# Altium integrated library Xilinx Spartan.IntLib: 39 symbols (part 4 of 4)
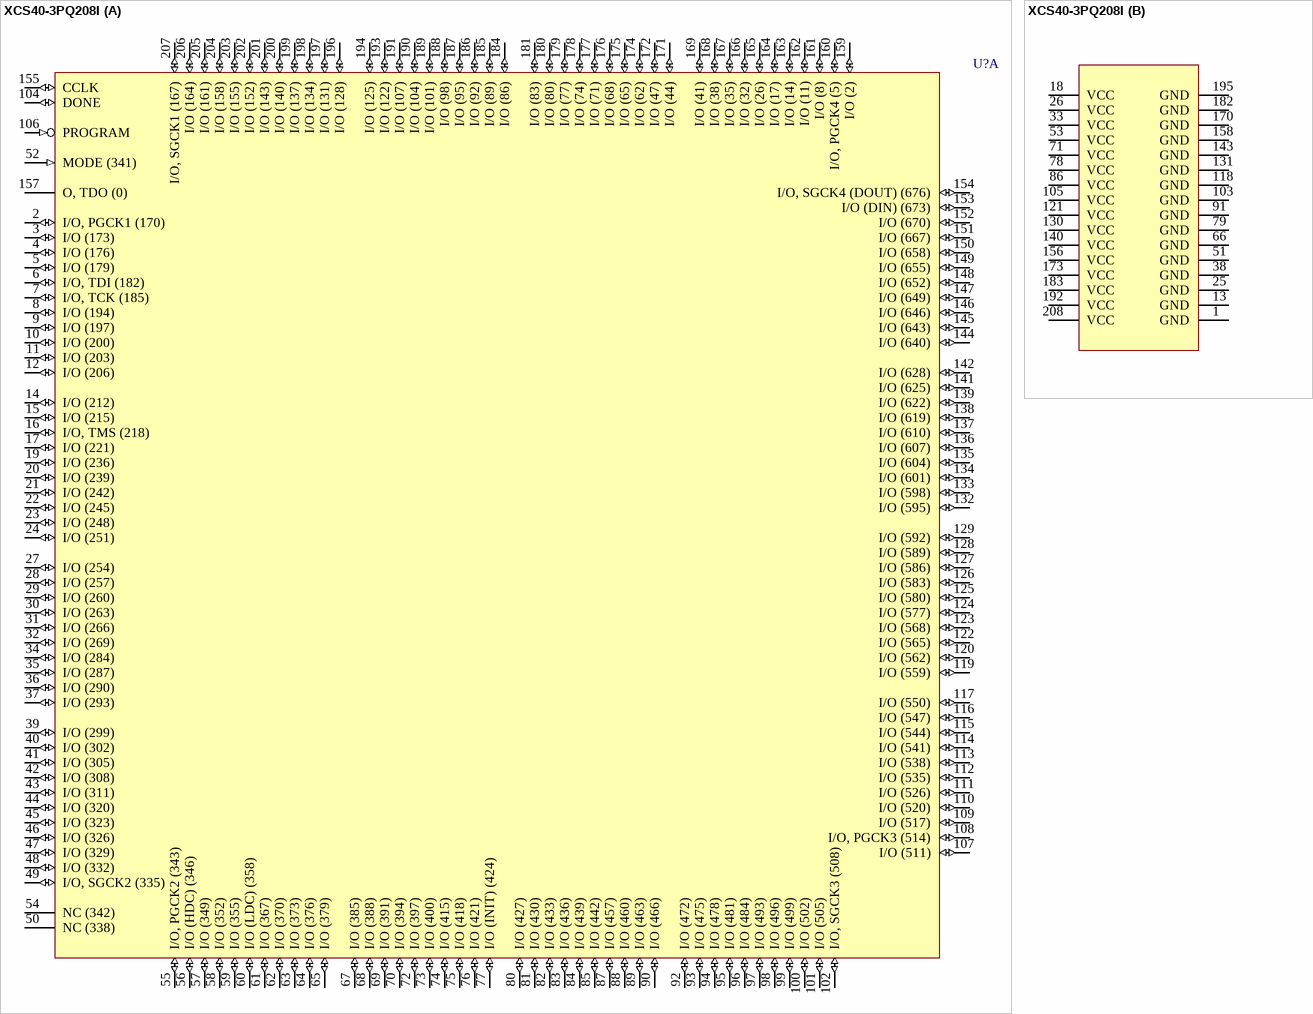
[diagram p29: symbol XCS40-3PQ208I]

## XCS40-3PQ208I
designator U?
Spartan FPGA, 169 User I/Os, 208-Pin PQFP, Speed Grade 3, Industrial Grade; Published: 13-Jul-2001; LatestRevisionDate: 16-Nov-2009; LatestRevisionNote: Updated to datasheet version 1.8 Jun-2008; DatasheetVersion: ver1.8, Jun-2008; PackageVersion: ver1.2, Jun-2004; PackageReference: PQ208; Publisher: Altium Limited; PackageDescription: 208-Pin Plastic Quad Flat Pack (PQ208); Supplier 1: Digi-Key; Supplier Part Number 1: XCS40-3PQ208I-ND; Code_JEDEC: MS-029-FA-1; ComponentLink1Description: Spartan(XL) Datasheet; ComponentLink1URL: http://www.xilinx.com/support/documentation/data_sheets/ds060.pdf; ComponentLink2Description: PQ208 Package Drawing; ComponentLink2URL: http://www.xilinx.com/support/documentation/package_specs/pq208.pdf; ComponentLink3Description: Spartan(XL) Documents; ComponentLink3URL: http://www.xilinx.com/support/documentation/spartan-xl.htm; ComponentLink4Description: Xilinx.com Home; ComponentLink4URL: http://www.xilinx.com
footprint PQ208_N (Shrink QFP, 208-Leads, Body 28x28mm, Pitch 0.5mm, IPC Medium Density)
footprint PQ208_L (Shrink QFP, 208-Leads, Body 28x28mm, Pitch 0.5mm, IPC High Density)
footprint PQ208_M (Shrink QFP, 208-Leads, Body 28x28mm, Pitch 0.5mm, IPC Low Density)
part A pins: 2 I/O, PGCK1 (170) (io), 3 I/O (173) (io), 4 I/O (176) (io), 5 I/O (179) (io), 6 I/O, TDI (182) (io), 7 I/O, TCK (185) (io), 8 I/O (194) (io), 9 I/O (197) (io), 10 I/O (200) (io), 11 I/O (203) (io), 12 I/O (206) (io), 14 I/O (212) (io), 15 I/O (215) (io), 16 I/O, TMS (218) (io), 17 I/O (221) (io), 19 I/O (236) (io), 20 I/O (239) (io), 21 I/O (242) (io), 22 I/O (245) (io), 23 I/O (248) (io), 24 I/O (251) (io), 27 I/O (254) (io), 28 I/O (257) (io), 29 I/O (260) (io), 30 I/O (263) (io), 31 I/O (266) (io), 32 I/O (269) (io), 34 I/O (284) (io), 35 I/O (287) (io), 36 I/O (290) (io), 37 I/O (293) (io), 39 I/O (299) (io), 40 I/O (302) (io), 41 I/O (305) (io), 42 I/O (308) (io), 43 I/O (311) (io), 44 I/O (320) (io), 45 I/O (323) (io), 46 I/O (326) (io), 47 I/O (329) (io), 48 I/O (332) (io), 49 I/O, SGCK2 (335) (io), 50 NC (338), 52 MODE (341) (in), 54 NC (342), 55 I/O, PGCK2 (343) (io), 56 I/O (HDC) (346) (io), 57 I/O (349) (io), 58 I/O (352) (io), 59 I/O (355) (io), 60 I/O (LDC) (358) (io), 61 I/O (367) (io), 62 I/O (370) (io), 63 I/O (373) (io), 64 I/O (376) (io), 65 I/O (379) (io), 67 I/O (385) (io), 68 I/O (388) (io), 69 I/O (391) (io), 70 I/O (394) (io), 72 I/O (397) (io), 73 I/O (400) (io), 74 I/O (415) (io), 75 I/O (418) (io), 76 I/O (421) (io), 77 I/O (INIT) (424) (io), 80 I/O (427) (io), 81 I/O (430) (io), 82 I/O (433) (io), 83 I/O (436) (io), 84 I/O (439) (io), 85 I/O (442) (io), 87 I/O (457) (io), 88 I/O (460) (io), 89 I/O (463) (io), 90 I/O (466) (io), 92 I/O (472) (io), 93 I/O (475) (io), 94 I/O (478) (io), 95 I/O (481) (io), 96 I/O (484) (io), 97 I/O (493) (io), 98 I/O (496) (io), 99 I/O (499) (io), 100 I/O (502) (io), 101 I/O (505) (io), 102 I/O, SGCK3 (508) (io), 104 DONE (io), 106 PROGRAM (in), 107 I/O (511) (io), 108 I/O, PGCK3 (514) (io), 109 I/O (517) (io), 110 I/O (520) (io), 111 I/O (526) (io), 112 I/O (535) (io), 113 I/O (538) (io), 114 I/O (541) (io), 115 I/O (544) (io), 116 I/O (547) (io), 117 I/O (550) (io), 119 I/O (559) (io), 120 I/O (562) (io), 122 I/O (565) (io), 123 I/O (568) (io), 124 I/O (577) (io), 125 I/O (580) (io), 126 I/O (583) (io), 127 I/O (586) (io), 128 I/O (589) (io), 129 I/O (592) (io), 132 I/O (595) (io), 133 I/O (598) (io), 134 I/O (601) (io), 135 I/O (604) (io), 136 I/O (607) (io), 137 I/O (610) (io), 138 I/O (619) (io), 139 I/O (622) (io), 141 I/O (625) (io), 142 I/O (628) (io), 144 I/O (640) (io), 145 I/O (643) (io), 146 I/O (646) (io), 147 I/O (649) (io), 148 I/O (652) (io), 149 I/O (655) (io), 150 I/O (658) (io), 151 I/O (667) (io), 152 I/O (670) (io), 153 I/O (DIN) (673) (io), 154 I/O, SGCK4 (DOUT) (676) (io), 155 CCLK (io), 157 O, TDO (0) (hiz), 159 I/O (2) (io), 160 I/O, PGCK4 (5) (io), 161 I/O (8) (io), 162 I/O (11) (io), 163 I/O (14) (io), 164 I/O (17) (io), 165 I/O (26) (io), 166 I/O (32) (io), 167 I/O (35) (io), 168 I/O (38) (io), 169 I/O (41) (io), 171 I/O (44) (io), 172 I/O (47) (io), 174 I/O (62) (io), 175 I/O (65) (io), 176 I/O (68) (io), 177 I/O (71) (io), 178 I/O (74) (io), 179 I/O (77) (io), 180 I/O (80) (io), 181 I/O (83) (io), 184 I/O (86) (io), 185 I/O (89) (io), 186 I/O (92) (io), 187 I/O (95) (io), 188 I/O (98) (io), 189 I/O (101) (io), 190 I/O (104) (io), 191 I/O (107) (io), 193 I/O (122) (io), 194 I/O (125) (io), 196 I/O (128) (io), 197 I/O (131) (io), 198 I/O (134) (io), 199 I/O (137) (io), 200 I/O (140) (io), 201 I/O (143) (io), 202 I/O (152) (io), 203 I/O (155) (io), 204 I/O (158) (io), 205 I/O (161) (io), 206 I/O (164) (io), 207 I/O, SGCK1 (167) (io)
part B pins: 1 GND (power), 13 GND (power), 18 VCC (power), 25 GND (power), 26 VCC (power), 33 VCC (power), 38 GND (power), 51 GND (power), 53 VCC (power), 66 GND (power), 71 VCC (power), 78 VCC (power), 79 GND (power), 86 VCC (power), 91 GND (power), 103 GND (power), 105 VCC (power), 118 GND (power), 121 VCC (power), 130 VCC (power), 131 GND (power), 140 VCC (power), 143 GND (power), 156 VCC (power), 158 GND (power), 170 GND (power), 173 VCC (power), 182 GND (power), 183 VCC (power), 192 VCC (power), 195 GND (power), 208 VCC (power)

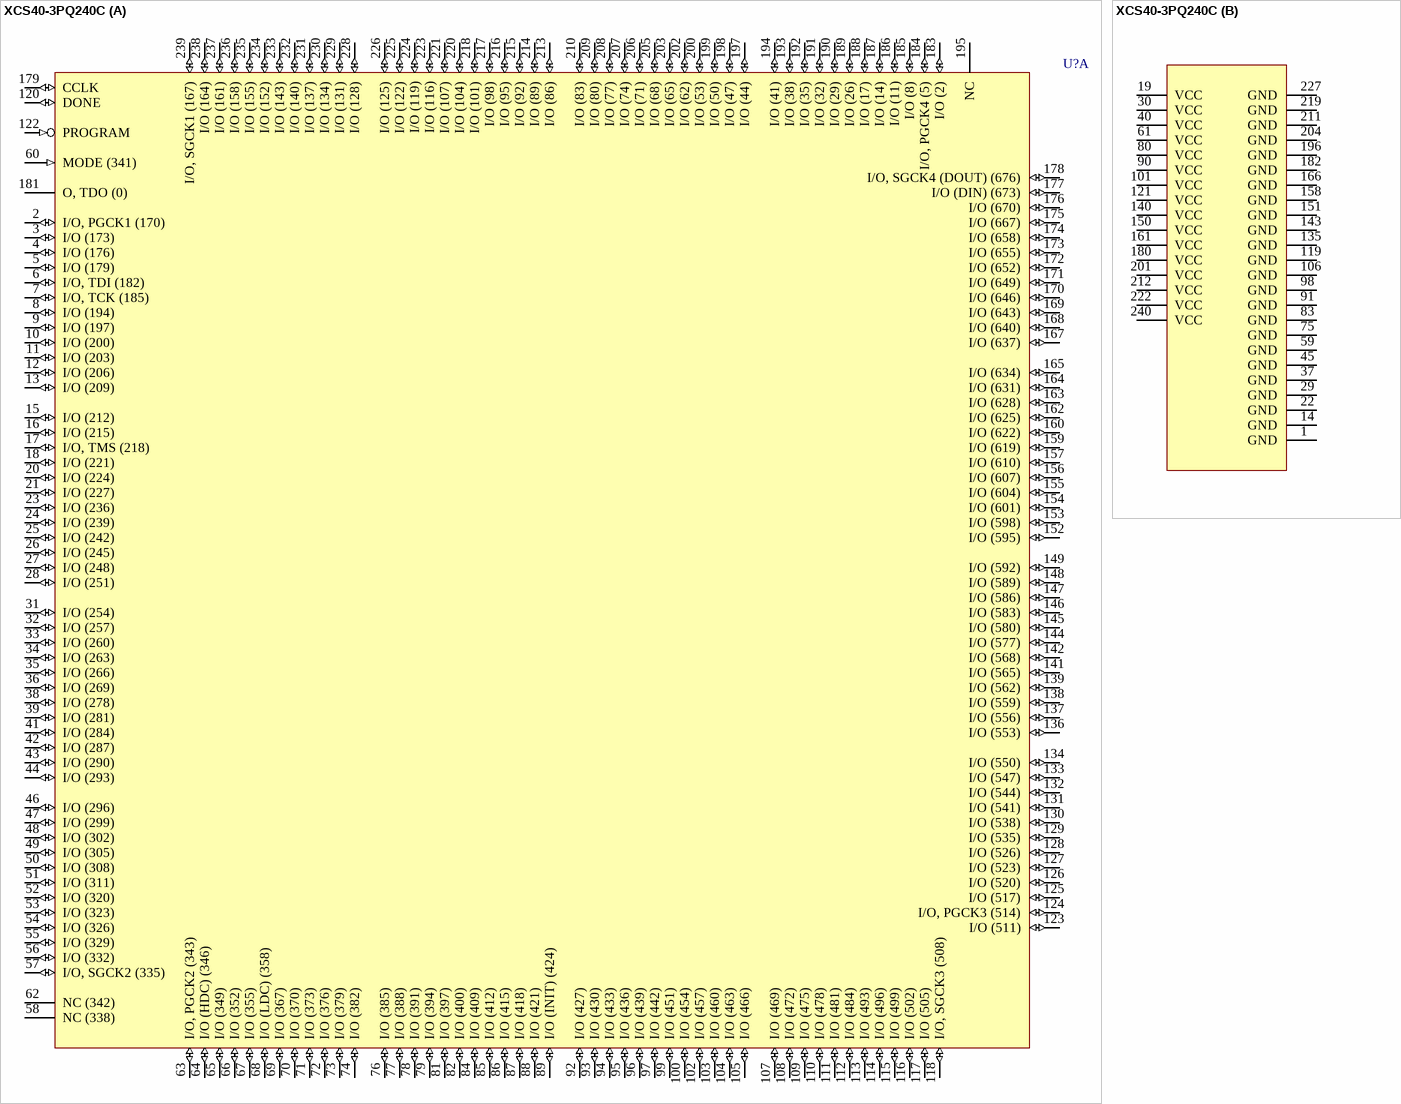
[diagram p23: symbol XCS40-3PQ240C]

## XCS40-3PQ240C
designator U?
Spartan FPGA, 192 User I/Os, 240-Pin PQFP, Speed Grade 3, Commercial Grade; Published: 13-Jul-2001; LatestRevisionDate: 16-Nov-2009; LatestRevisionNote: Updated to datasheet version 1.8 Jun-2008; DatasheetVersion: ver1.8, Jun-2008; PackageVersion: ver1.2, Jun-2004; PackageReference: PQ240; Publisher: Altium Limited; PackageDescription: 240-Pin Plastic Quad Flat Pack (PQ240); Supplier 1: Digi-Key; Supplier Part Number 1: XCS40-3PQ240C-ND; Code_JEDEC: MO-143-GA; ComponentLink1Description: Spartan(XL) Datasheet; ComponentLink1URL: http://www.xilinx.com/support/documentation/data_sheets/ds060.pdf; ComponentLink2Description: PQ240 Package Drawing; ComponentLink2URL: http://www.xilinx.com/support/documentation/package_specs/pq240.pdf; ComponentLink3Description: Spartan(XL) Documents; ComponentLink3URL: http://www.xilinx.com/support/documentation/spartan-xl.htm; ComponentLink4Description: Xilinx.com Home; ComponentLink4URL: http://www.xilinx.com
footprint PQ240_N (Shrink QFP, 240-Leads, Body 32x32mm, Pitch 0.5mm, IPC Medium Density)
footprint PQ240_L (Shrink QFP, 240-Leads, Body 32x32mm, Pitch 0.5mm, IPC High Density)
footprint PQ240_M (Shrink QFP, 240-Leads, Body 32x32mm, Pitch 0.5mm, IPC Low Density)
part A pins: 2 I/O, PGCK1 (170) (io), 3 I/O (173) (io), 4 I/O (176) (io), 5 I/O (179) (io), 6 I/O, TDI (182) (io), 7 I/O, TCK (185) (io), 8 I/O (194) (io), 9 I/O (197) (io), 10 I/O (200) (io), 11 I/O (203) (io), 12 I/O (206) (io), 13 I/O (209) (io), 15 I/O (212) (io), 16 I/O (215) (io), 17 I/O, TMS (218) (io), 18 I/O (221) (io), 20 I/O (224) (io), 21 I/O (227) (io), 23 I/O (236) (io), 24 I/O (239) (io), 25 I/O (242) (io), 26 I/O (245) (io), 27 I/O (248) (io), 28 I/O (251) (io), 31 I/O (254) (io), 32 I/O (257) (io), 33 I/O (260) (io), 34 I/O (263) (io), 35 I/O (266) (io), 36 I/O (269) (io), 38 I/O (278) (io), 39 I/O (281) (io), 41 I/O (284) (io), 42 I/O (287) (io), 43 I/O (290) (io), 44 I/O (293) (io), 46 I/O (296) (io), 47 I/O (299) (io), 48 I/O (302) (io), 49 I/O (305) (io), 50 I/O (308) (io), 51 I/O (311) (io), 52 I/O (320) (io), 53 I/O (323) (io), 54 I/O (326) (io), 55 I/O (329) (io), 56 I/O (332) (io), 57 I/O, SGCK2 (335) (io), 58 NC (338), 60 MODE (341) (in), 62 NC (342), 63 I/O, PGCK2 (343) (io), 64 I/O (HDC) (346) (io), 65 I/O (349) (io), 66 I/O (352) (io), 67 I/O (355) (io), 68 I/O (LDC) (358) (io), 69 I/O (367) (io), 70 I/O (370) (io), 71 I/O (373) (io), 72 I/O (376) (io), 73 I/O (379) (io), 74 I/O (382) (io), 76 I/O (385) (io), 77 I/O (388) (io), 78 I/O (391) (io), 79 I/O (394) (io), 81 I/O (397) (io), 82 I/O (400) (io), 84 I/O (409) (io), 85 I/O (412) (io), 86 I/O (415) (io), 87 I/O (418) (io), 88 I/O (421) (io), 89 I/O (INIT) (424) (io), 92 I/O (427) (io), 93 I/O (430) (io), 94 I/O (433) (io), 95 I/O (436) (io), 96 I/O (439) (io), 97 I/O (442) (io), 99 I/O (451) (io), 100 I/O (454) (io), 102 I/O (457) (io), 103 I/O (460) (io), 104 I/O (463) (io), 105 I/O (466) (io), 107 I/O (469) (io), 108 I/O (472) (io), 109 I/O (475) (io), 110 I/O (478) (io), 111 I/O (481) (io), 112 I/O (484) (io), 113 I/O (493) (io), 114 I/O (496) (io), 115 I/O (499) (io), 116 I/O (502) (io), 117 I/O (505) (io), 118 I/O, SGCK3 (508) (io), 120 DONE (io), 122 PROGRAM (in), 123 I/O (511) (io), 124 I/O, PGCK3 (514) (io), 125 I/O (517) (io), 126 I/O (520) (io), 127 I/O (523) (io), 128 I/O (526) (io), 129 I/O (535) (io), 130 I/O (538) (io), 131 I/O (541) (io), 132 I/O (544) (io), 133 I/O (547) (io), 134 I/O (550) (io), 136 I/O (553) (io), 137 I/O (556) (io), 138 I/O (559) (io), 139 I/O (562) (io), 141 I/O (565) (io), 142 I/O (568) (io), 144 I/O (577) (io), 145 I/O (580) (io), 146 I/O (583) (io), 147 I/O (586) (io), 148 I/O (589) (io), 149 I/O (592) (io), 152 I/O (595) (io), 153 I/O (598) (io), 154 I/O (601) (io), 155 I/O (604) (io), 156 I/O (607) (io), 157 I/O (610) (io), 159 I/O (619) (io), 160 I/O (622) (io), 162 I/O (625) (io), 163 I/O (628) (io), 164 I/O (631) (io), 165 I/O (634) (io), 167 I/O (637) (io), 168 I/O (640) (io), 169 I/O (643) (io), 170 I/O (646) (io), 171 I/O (649) (io), 172 I/O (652) (io), 173 I/O (655) (io), 174 I/O (658) (io), 175 I/O (667) (io), 176 I/O (670) (io), 177 I/O (DIN) (673) (io), 178 I/O, SGCK4 (DOUT) (676) (io), 179 CCLK (io), 181 O, TDO (0) (hiz), 183 I/O (2) (io), 184 I/O, PGCK4 (5) (io), 185 I/O (8) (io), 186 I/O (11) (io), 187 I/O (14) (io), 188 I/O (17) (io), 189 I/O (26) (io), 190 I/O (29) (io), 191 I/O (32) (io), 192 I/O (35) (io), 193 I/O (38) (io), 194 I/O (41) (io), 195 NC, 197 I/O (44) (io), 198 I/O (47) (io), 199 I/O (50) (io), 200 I/O (53) (io), 202 I/O (62) (io), 203 I/O (65) (io), 205 I/O (68) (io), 206 I/O (71) (io), 207 I/O (74) (io), 208 I/O (77) (io), 209 I/O (80) (io), 210 I/O (83) (io), 213 I/O (86) (io), 214 I/O (89) (io), 215 I/O (92) (io), 216 I/O (95) (io), 217 I/O (98) (io), 218 I/O (101) (io), 220 I/O (104) (io), 221 I/O (107) (io), 223 I/O (116) (io), 224 I/O (119) (io), 225 I/O (122) (io), 226 I/O (125) (io), 228 I/O (128) (io), 229 I/O (131) (io), 230 I/O (134) (io), 231 I/O (137) (io), 232 I/O (140) (io), 233 I/O (143) (io), 234 I/O (152) (io), 235 I/O (155) (io), 236 I/O (158) (io), 237 I/O (161) (io), 238 I/O (164) (io), 239 I/O, SGCK1 (167) (io)
part B pins: 1 GND (power), 14 GND (power), 19 VCC (power), 22 GND (power), 29 GND (power), 30 VCC (power), 37 GND (power), 40 VCC (power), 45 GND (power), 59 GND (power), 61 VCC (power), 75 GND (power), 80 VCC (power), 83 GND (power), 90 VCC (power), 91 GND (power), 98 GND (power), 101 VCC (power), 106 GND (power), 119 GND (power), 121 VCC (power), 135 GND (power), 140 VCC (power), 143 GND (power), 150 VCC (power), 151 GND (power), 158 GND (power), 161 VCC (power), 166 GND (power), 180 VCC (power), 182 GND (power), 196 GND (power), 201 VCC (power), 204 GND (power), 211 GND (power), 212 VCC (power), 219 GND (power), 222 VCC (power), 227 GND (power), 240 VCC (power)

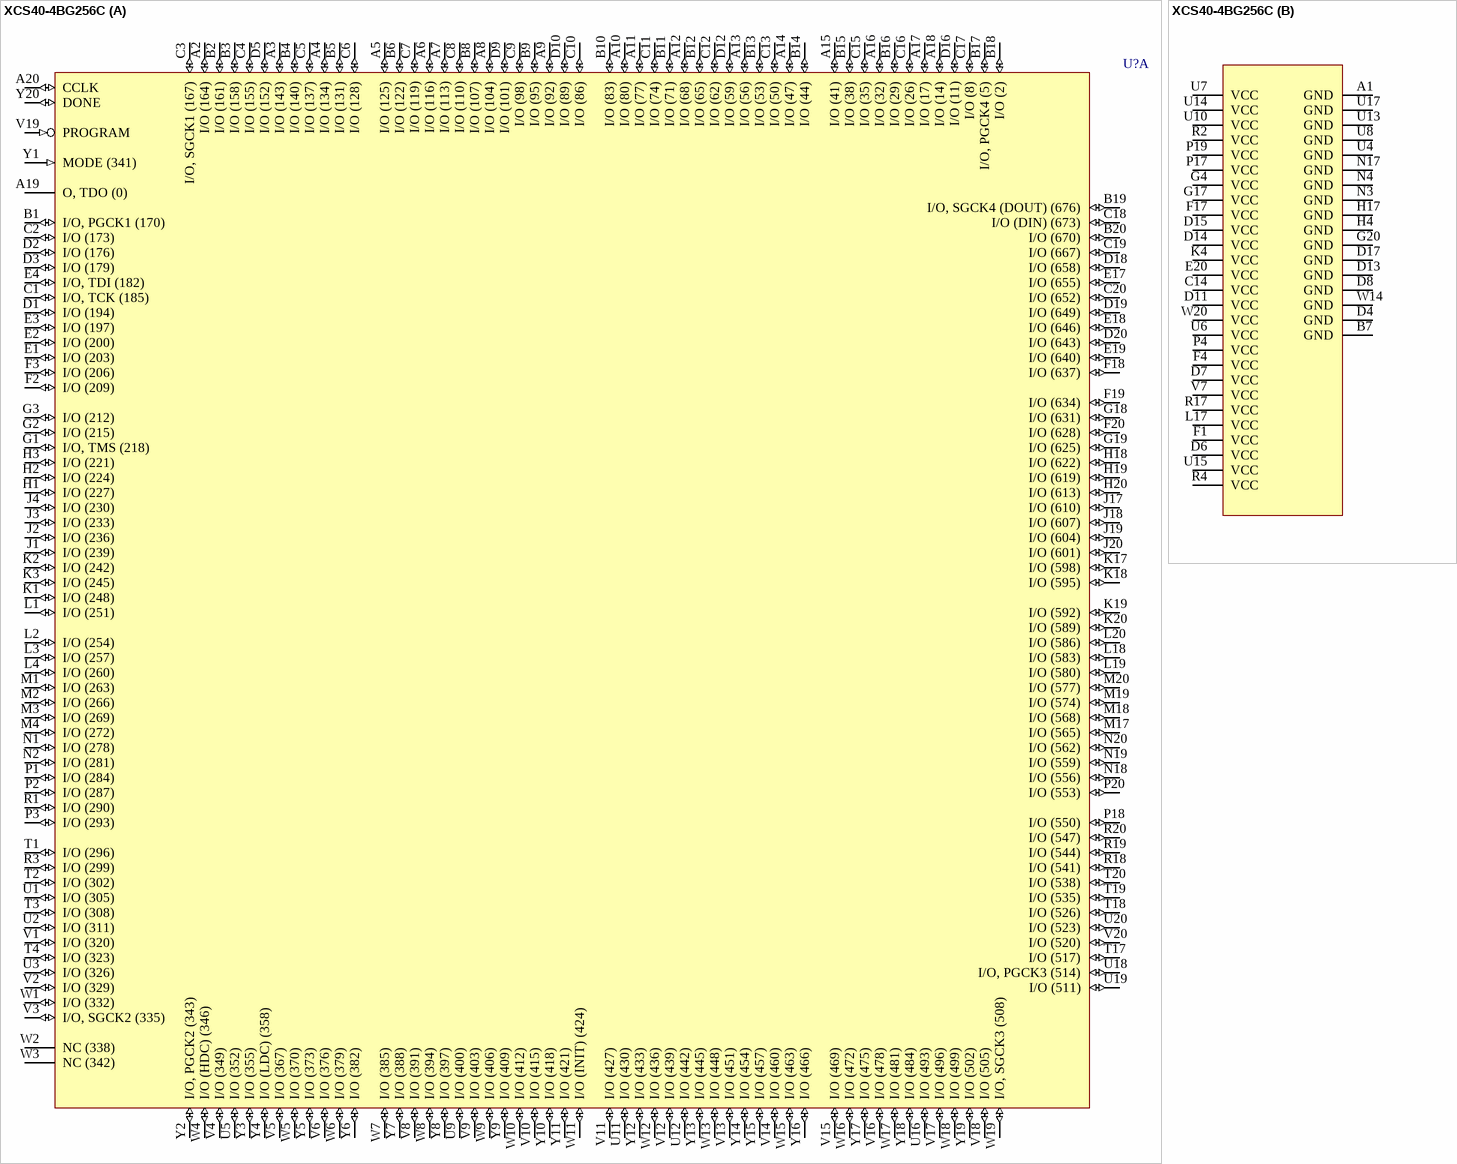
[diagram p24: symbol XCS40-4BG256C]

## XCS40-4BG256C
designator U?
Spartan FPGA, 205 User I/Os, 256-Ball BGA, Speed Grade 4, Commercial Grade; Published: 13-Jul-2001; LatestRevisionDate: 16-Nov-2009; LatestRevisionNote: Updated to datasheet version 1.8 Jun-2008; DatasheetVersion: ver1.8, Jun-2008; PackageVersion: ver1.2, Apr-2006; PackageReference: BG256; Publisher: Altium Limited; PackageDescription: 256-Ball Plastic Ball Grid Array (BG256); Supplier 1: Digi-Key; Supplier Part Number 1: XCS40-4BG256C-ND; Code_JEDEC: MS-034-BAL-2; ComponentLink1Description: Spartan(XL) Datasheet; ComponentLink1URL: http://www.xilinx.com/support/documentation/data_sheets/ds060.pdf; ComponentLink2Description: BG256 Package Drawing; ComponentLink2URL: http://www.xilinx.com/support/documentation/package_specs/bg256.pdf; ComponentLink3Description: Spartan(XL) Documents; ComponentLink3URL: http://www.xilinx.com/support/documentation/spartan-xl.htm; ComponentLink4Description: Xilinx.com Home; ComponentLink4URL: http://www.xilinx.com
footprint BG256 (BGA, 256-Leads, Body 27x27mm, Pitch 1.27mm)
part A pins: A2 I/O (164) (io), A3 I/O (143) (io), A4 I/O (134) (io), A5 I/O (125) (io), A6 I/O (116) (io), A7 I/O (113) (io), A8 I/O (104) (io), A9 I/O (92) (io), A10 I/O (80) (io), A11 I/O (77) (io), A12 I/O (68) (io), A13 I/O (56) (io), A14 I/O (47) (io), A15 I/O (41) (io), A16 I/O (32) (io), A17 I/O (17) (io), A18 I/O (14) (io), A19 O, TDO (0) (hiz), A20 CCLK (io), B1 I/O, PGCK1 (170) (io), B2 I/O (161) (io), B3 I/O (158) (io), B4 I/O (140) (io), B5 I/O (131) (io), B6 I/O (122) (io), B8 I/O (107) (io), B9 I/O (95) (io), B10 I/O (83) (io), B11 I/O (71) (io), B12 I/O (65) (io), B13 I/O (53) (io), B14 I/O (44) (io), B15 I/O (38) (io), B16 I/O (29) (io), B17 I/O, PGCK4 (5) (io), B18 I/O (2) (io), B19 I/O, SGCK4 (DOUT) (676) (io), B20 I/O (670) (io), C1 I/O, TCK (185) (io), C2 I/O (173) (io), C3 I/O, SGCK1 (167) (io), C4 I/O (155) (io), C5 I/O (137) (io), C6 I/O (128) (io), C7 I/O (119) (io), C8 I/O (110) (io), C9 I/O (98) (io), C10 I/O (86) (io), C11 I/O (74) (io), C12 I/O (62) (io), C13 I/O (50) (io), C15 I/O (35) (io), C16 I/O (26) (io), C17 I/O (8) (io), C18 I/O (DIN) (673) (io), C19 I/O (667) (io), C20 I/O (652) (io), D1 I/O (194) (io), D2 I/O (176) (io), D3 I/O (179) (io), D5 I/O (152) (io), D9 I/O (101) (io), D10 I/O (89) (io), D12 I/O (59) (io), D16 I/O (11) (io), D18 I/O (658) (io), D19 I/O (649) (io), D20 I/O (643) (io), E1 I/O (203) (io), E2 I/O (200) (io), E3 I/O (197) (io), E4 I/O, TDI (182) (io), E17 I/O (655) (io), E18 I/O (646) (io), E19 I/O (640) (io), F2 I/O (209) (io), F3 I/O (206) (io), F18 I/O (637) (io), F19 I/O (634) (io), F20 I/O (628) (io), G1 I/O, TMS (218) (io), G2 I/O (215) (io), G3 I/O (212) (io), G18 I/O (631) (io), G19 I/O (625) (io), H1 I/O (227) (io), H2 I/O (224) (io), H3 I/O (221) (io), H18 I/O (622) (io), H19 I/O (619) (io), H20 I/O (613) (io), J1 I/O (239) (io), J2 I/O (236) (io), J3 I/O (233) (io), J4 I/O (230) (io), J17 I/O (610) (io), J18 I/O (607) (io), J19 I/O (604) (io), J20 I/O (601) (io), K1 I/O (248) (io), K2 I/O (242) (io), K3 I/O (245) (io), K17 I/O (598) (io), K18 I/O (595) (io), K19 I/O (592) (io), K20 I/O (589) (io), L1 I/O (251) (io), L2 I/O (254) (io), L3 I/O (257) (io), L4 I/O (260) (io), L18 I/O (583) (io), L19 I/O (580) (io), L20 I/O (586) (io), M1 I/O (263) (io), M2 I/O (266) (io), M3 I/O (269) (io), M4 I/O (272) (io), M17 I/O (565) (io), M18 I/O (568) (io), M19 I/O (574) (io), M20 I/O (577) (io), N1 I/O (278) (io), N2 I/O (281) (io), N18 I/O (556) (io), N19 I/O (559) (io), N20 I/O (562) (io), P1 I/O (284) (io), P2 I/O (287) (io), P3 I/O (293) (io), P18 I/O (550) (io), P20 I/O (553) (io), R1 I/O (290) (io), R3 I/O (299) (io), R18 I/O (541) (io), R19 I/O (544) (io), R20 I/O (547) (io), T1 I/O (296) (io), T2 I/O (302) (io), T3 I/O (308) (io), T4 I/O (323) (io), T17 I/O (517) (io), T18 I/O (526) (io), T19 I/O (535) (io), T20 I/O (538) (io), U1 I/O (305) (io), U2 I/O (311) (io), U3 I/O (326) (io), U5 I/O (352) (io), U9 I/O (400) (io), U11 I/O (430) (io), U12 I/O (442) (io), U16 I/O (493) (io), U18 I/O, PGCK3 (514) (io), U19 I/O (511) (io), U20 I/O (523) (io), V1 I/O (320) (io), V2 I/O (329) (io), V3 I/O, SGCK2 (335) (io), V4 I/O (349) (io), V5 I/O (367) (io), V6 I/O (376) (io), V8 I/O (391) (io), V9 I/O (403) (io), V10 I/O (415) (io), V11 I/O (427) (io), V12 I/O (439) (io), V13 I/O (451) (io), V14 I/O (460) (io), V15 I/O (469) (io), V16 I/O (478) (io), V17 I/O (496) (io), V18 I/O (505) (io), V19 PROGRAM (in), V20 I/O (520) (io), W1 I/O (332) (io), W2 NC (338), W3 NC (342), W4 I/O (HDC) (346) (io), W5 I/O (370) (io), W6 I/O (379) (io), W7 I/O (385) (io), W8 I/O (394) (io), W9 I/O (406) (io), W10 I/O (412) (io), W11 I/O (INIT) (424) (io), W12 I/O (436) (io), W13 I/O (448) (io), W15 I/O (463) (io), W16 I/O (472) (io), W17 I/O (481) (io), W18 I/O (499) (io), W19 I/O, SGCK3 (508) (io), Y1 MODE (341) (in), Y2 I/O, PGCK2 (343) (io), Y3 I/O (355) (io), Y4 I/O (LDC) (358) (io), Y5 I/O (373) (io), Y6 I/O (382) (io), Y7 I/O (388) (io), Y8 I/O (397) (io), Y9 I/O (409) (io), Y10 I/O (418) (io), Y11 I/O (421) (io), Y12 I/O (433) (io), Y13 I/O (445) (io), Y14 I/O (454) (io), Y15 I/O (457) (io), Y16 I/O (466) (io), Y17 I/O (475) (io), Y18 I/O (484) (io), Y19 I/O (502) (io), Y20 DONE (io)
part B pins: A1 GND (power), B7 GND (power), C14 VCC (power), D4 GND (power), D6 VCC (power), D7 VCC (power), D8 GND (power), D11 VCC (power), D13 GND (power), D14 VCC (power), D15 VCC (power), D17 GND (power), E20 VCC (power), F1 VCC (power), F4 VCC (power), F17 VCC (power), G4 VCC (power), G17 VCC (power), G20 GND (power), H4 GND (power), H17 GND (power), K4 VCC (power), L17 VCC (power), N3 GND (power), N4 GND (power), N17 GND (power), P4 VCC (power), P17 VCC (power), P19 VCC (power), R2 VCC (power), R4 VCC (power), R17 VCC (power), U4 GND (power), U6 VCC (power), U7 VCC (power), U8 GND (power), U10 VCC (power), U13 GND (power), U14 VCC (power), U15 VCC (power), U17 GND (power), V7 VCC (power), W14 GND (power), W20 VCC (power)

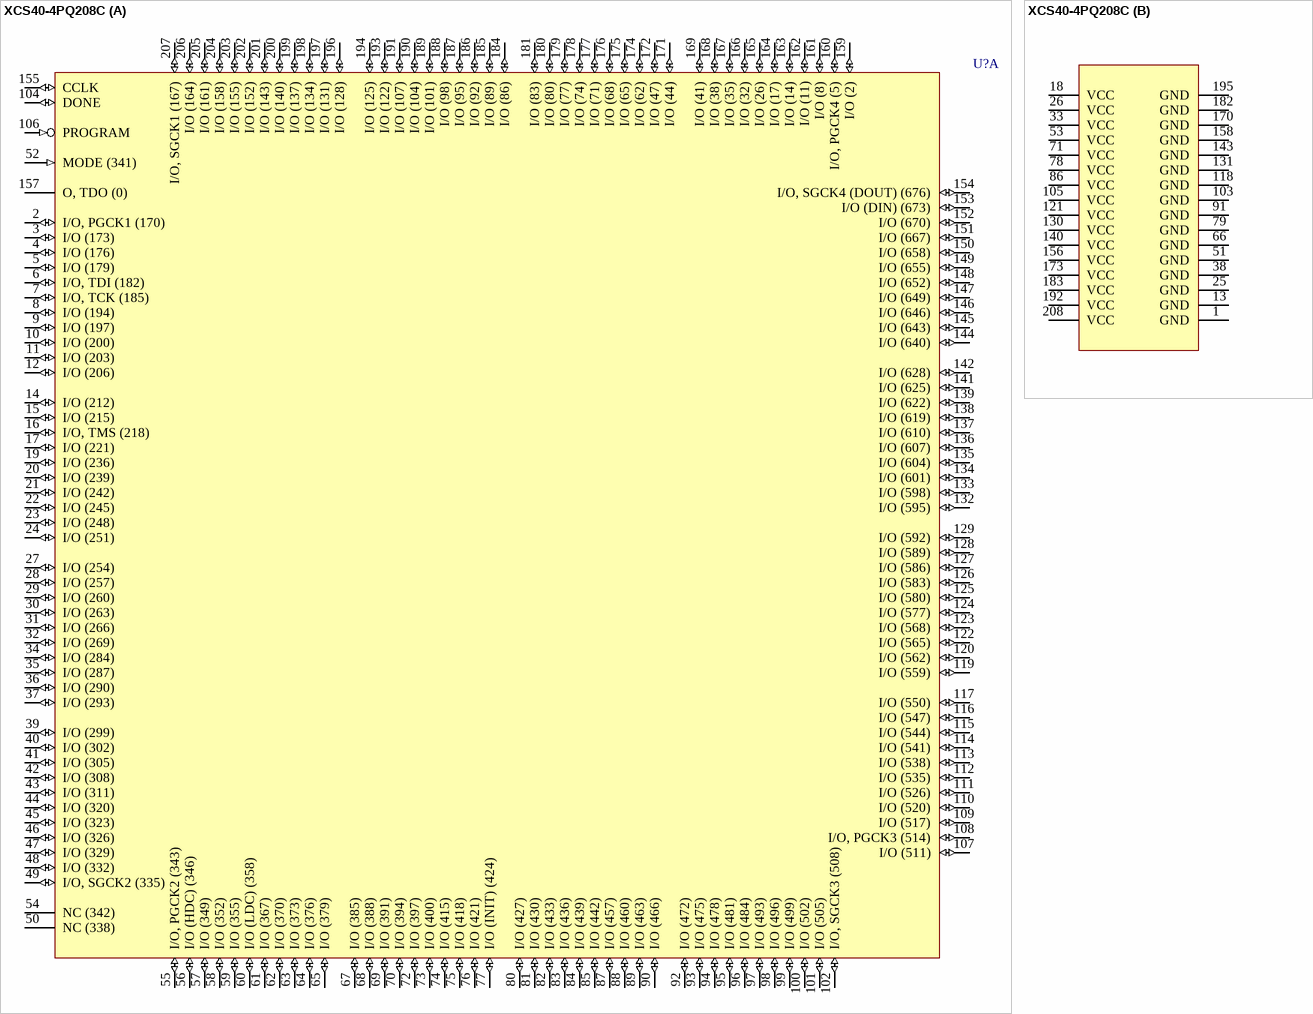
[diagram p25: symbol XCS40-4PQ208C]

## XCS40-4PQ208C
designator U?
Spartan FPGA, 169 User I/Os, 208-Pin PQFP, Speed Grade 4, Commercial Grade; Published: 13-Jul-2001; LatestRevisionDate: 16-Nov-2009; LatestRevisionNote: Updated to datasheet version 1.8 Jun-2008; DatasheetVersion: ver1.8, Jun-2008; PackageVersion: ver1.2, Jun-2004; PackageReference: PQ208; Publisher: Altium Limited; PackageDescription: 208-Pin Plastic Quad Flat Pack (PQ208); Supplier 1: Digi-Key; Supplier Part Number 1: XCS40-4PQ208C-ND; Code_JEDEC: MS-029-FA-1; ComponentLink1Description: Spartan(XL) Datasheet; ComponentLink1URL: http://www.xilinx.com/support/documentation/data_sheets/ds060.pdf; ComponentLink2Description: PQ208 Package Drawing; ComponentLink2URL: http://www.xilinx.com/support/documentation/package_specs/pq208.pdf; ComponentLink3Description: Spartan(XL) Documents; ComponentLink3URL: http://www.xilinx.com/support/documentation/spartan-xl.htm; ComponentLink4Description: Xilinx.com Home; ComponentLink4URL: http://www.xilinx.com
footprint PQ208_N (Shrink QFP, 208-Leads, Body 28x28mm, Pitch 0.5mm, IPC Medium Density)
footprint PQ208_L (Shrink QFP, 208-Leads, Body 28x28mm, Pitch 0.5mm, IPC High Density)
footprint PQ208_M (Shrink QFP, 208-Leads, Body 28x28mm, Pitch 0.5mm, IPC Low Density)
part A pins: 2 I/O, PGCK1 (170) (io), 3 I/O (173) (io), 4 I/O (176) (io), 5 I/O (179) (io), 6 I/O, TDI (182) (io), 7 I/O, TCK (185) (io), 8 I/O (194) (io), 9 I/O (197) (io), 10 I/O (200) (io), 11 I/O (203) (io), 12 I/O (206) (io), 14 I/O (212) (io), 15 I/O (215) (io), 16 I/O, TMS (218) (io), 17 I/O (221) (io), 19 I/O (236) (io), 20 I/O (239) (io), 21 I/O (242) (io), 22 I/O (245) (io), 23 I/O (248) (io), 24 I/O (251) (io), 27 I/O (254) (io), 28 I/O (257) (io), 29 I/O (260) (io), 30 I/O (263) (io), 31 I/O (266) (io), 32 I/O (269) (io), 34 I/O (284) (io), 35 I/O (287) (io), 36 I/O (290) (io), 37 I/O (293) (io), 39 I/O (299) (io), 40 I/O (302) (io), 41 I/O (305) (io), 42 I/O (308) (io), 43 I/O (311) (io), 44 I/O (320) (io), 45 I/O (323) (io), 46 I/O (326) (io), 47 I/O (329) (io), 48 I/O (332) (io), 49 I/O, SGCK2 (335) (io), 50 NC (338), 52 MODE (341) (in), 54 NC (342), 55 I/O, PGCK2 (343) (io), 56 I/O (HDC) (346) (io), 57 I/O (349) (io), 58 I/O (352) (io), 59 I/O (355) (io), 60 I/O (LDC) (358) (io), 61 I/O (367) (io), 62 I/O (370) (io), 63 I/O (373) (io), 64 I/O (376) (io), 65 I/O (379) (io), 67 I/O (385) (io), 68 I/O (388) (io), 69 I/O (391) (io), 70 I/O (394) (io), 72 I/O (397) (io), 73 I/O (400) (io), 74 I/O (415) (io), 75 I/O (418) (io), 76 I/O (421) (io), 77 I/O (INIT) (424) (io), 80 I/O (427) (io), 81 I/O (430) (io), 82 I/O (433) (io), 83 I/O (436) (io), 84 I/O (439) (io), 85 I/O (442) (io), 87 I/O (457) (io), 88 I/O (460) (io), 89 I/O (463) (io), 90 I/O (466) (io), 92 I/O (472) (io), 93 I/O (475) (io), 94 I/O (478) (io), 95 I/O (481) (io), 96 I/O (484) (io), 97 I/O (493) (io), 98 I/O (496) (io), 99 I/O (499) (io), 100 I/O (502) (io), 101 I/O (505) (io), 102 I/O, SGCK3 (508) (io), 104 DONE (io), 106 PROGRAM (in), 107 I/O (511) (io), 108 I/O, PGCK3 (514) (io), 109 I/O (517) (io), 110 I/O (520) (io), 111 I/O (526) (io), 112 I/O (535) (io), 113 I/O (538) (io), 114 I/O (541) (io), 115 I/O (544) (io), 116 I/O (547) (io), 117 I/O (550) (io), 119 I/O (559) (io), 120 I/O (562) (io), 122 I/O (565) (io), 123 I/O (568) (io), 124 I/O (577) (io), 125 I/O (580) (io), 126 I/O (583) (io), 127 I/O (586) (io), 128 I/O (589) (io), 129 I/O (592) (io), 132 I/O (595) (io), 133 I/O (598) (io), 134 I/O (601) (io), 135 I/O (604) (io), 136 I/O (607) (io), 137 I/O (610) (io), 138 I/O (619) (io), 139 I/O (622) (io), 141 I/O (625) (io), 142 I/O (628) (io), 144 I/O (640) (io), 145 I/O (643) (io), 146 I/O (646) (io), 147 I/O (649) (io), 148 I/O (652) (io), 149 I/O (655) (io), 150 I/O (658) (io), 151 I/O (667) (io), 152 I/O (670) (io), 153 I/O (DIN) (673) (io), 154 I/O, SGCK4 (DOUT) (676) (io), 155 CCLK (io), 157 O, TDO (0) (hiz), 159 I/O (2) (io), 160 I/O, PGCK4 (5) (io), 161 I/O (8) (io), 162 I/O (11) (io), 163 I/O (14) (io), 164 I/O (17) (io), 165 I/O (26) (io), 166 I/O (32) (io), 167 I/O (35) (io), 168 I/O (38) (io), 169 I/O (41) (io), 171 I/O (44) (io), 172 I/O (47) (io), 174 I/O (62) (io), 175 I/O (65) (io), 176 I/O (68) (io), 177 I/O (71) (io), 178 I/O (74) (io), 179 I/O (77) (io), 180 I/O (80) (io), 181 I/O (83) (io), 184 I/O (86) (io), 185 I/O (89) (io), 186 I/O (92) (io), 187 I/O (95) (io), 188 I/O (98) (io), 189 I/O (101) (io), 190 I/O (104) (io), 191 I/O (107) (io), 193 I/O (122) (io), 194 I/O (125) (io), 196 I/O (128) (io), 197 I/O (131) (io), 198 I/O (134) (io), 199 I/O (137) (io), 200 I/O (140) (io), 201 I/O (143) (io), 202 I/O (152) (io), 203 I/O (155) (io), 204 I/O (158) (io), 205 I/O (161) (io), 206 I/O (164) (io), 207 I/O, SGCK1 (167) (io)
part B pins: 1 GND (power), 13 GND (power), 18 VCC (power), 25 GND (power), 26 VCC (power), 33 VCC (power), 38 GND (power), 51 GND (power), 53 VCC (power), 66 GND (power), 71 VCC (power), 78 VCC (power), 79 GND (power), 86 VCC (power), 91 GND (power), 103 GND (power), 105 VCC (power), 118 GND (power), 121 VCC (power), 130 VCC (power), 131 GND (power), 140 VCC (power), 143 GND (power), 156 VCC (power), 158 GND (power), 170 GND (power), 173 VCC (power), 182 GND (power), 183 VCC (power), 192 VCC (power), 195 GND (power), 208 VCC (power)

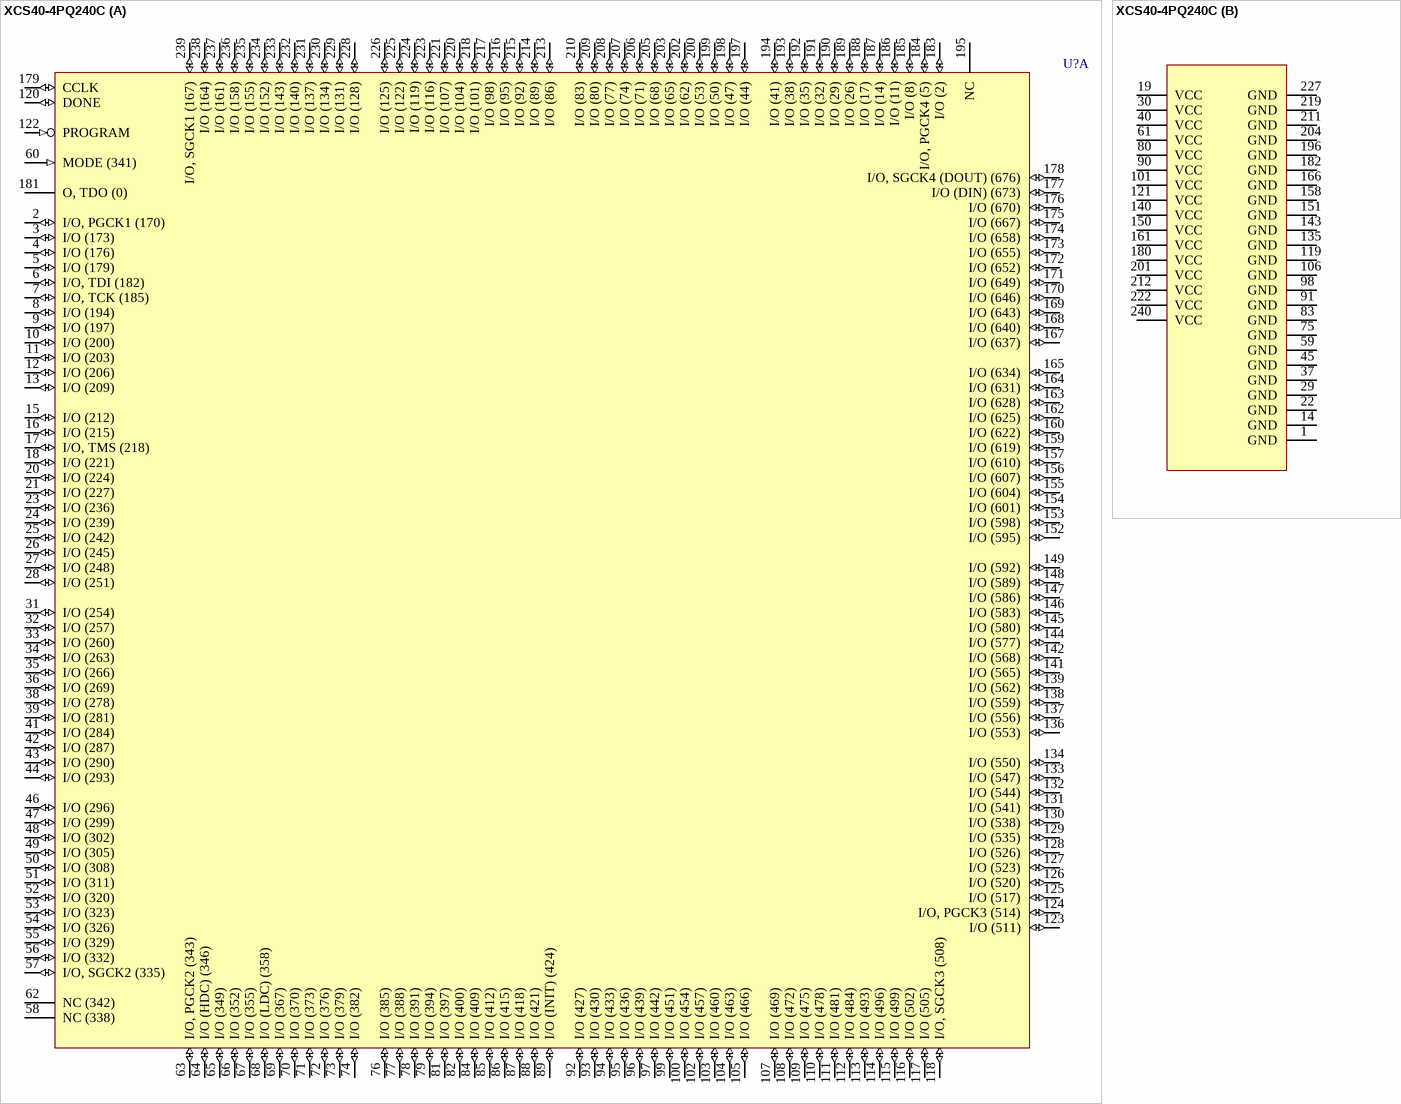
[diagram p26: symbol XCS40-4PQ240C]

## XCS40-4PQ240C
designator U?
Spartan FPGA, 192 User I/Os, 240-Pin PQFP, Speed Grade 4, Commercial Grade; Published: 13-Jul-2001; LatestRevisionDate: 16-Nov-2009; LatestRevisionNote: Updated to datasheet version 1.8 Jun-2008; DatasheetVersion: ver1.8, Jun-2008; PackageVersion: ver1.2, Jun-2004; PackageReference: PQ240; Publisher: Altium Limited; PackageDescription: 240-Pin Plastic Quad Flat Pack (PQ240); Supplier 1: Digi-Key; Supplier Part Number 1: XCS40-4PQ240C-ND; Code_JEDEC: MO-143-GA; ComponentLink1Description: Spartan(XL) Datasheet; ComponentLink1URL: http://www.xilinx.com/support/documentation/data_sheets/ds060.pdf; ComponentLink2Description: PQ240 Package Drawing; ComponentLink2URL: http://www.xilinx.com/support/documentation/package_specs/pq240.pdf; ComponentLink3Description: Spartan(XL) Documents; ComponentLink3URL: http://www.xilinx.com/support/documentation/spartan-xl.htm; ComponentLink4Description: Xilinx.com Home; ComponentLink4URL: http://www.xilinx.com
footprint PQ240_N (Shrink QFP, 240-Leads, Body 32x32mm, Pitch 0.5mm, IPC Medium Density)
footprint PQ240_L (Shrink QFP, 240-Leads, Body 32x32mm, Pitch 0.5mm, IPC High Density)
footprint PQ240_M (Shrink QFP, 240-Leads, Body 32x32mm, Pitch 0.5mm, IPC Low Density)
part A pins: 2 I/O, PGCK1 (170) (io), 3 I/O (173) (io), 4 I/O (176) (io), 5 I/O (179) (io), 6 I/O, TDI (182) (io), 7 I/O, TCK (185) (io), 8 I/O (194) (io), 9 I/O (197) (io), 10 I/O (200) (io), 11 I/O (203) (io), 12 I/O (206) (io), 13 I/O (209) (io), 15 I/O (212) (io), 16 I/O (215) (io), 17 I/O, TMS (218) (io), 18 I/O (221) (io), 20 I/O (224) (io), 21 I/O (227) (io), 23 I/O (236) (io), 24 I/O (239) (io), 25 I/O (242) (io), 26 I/O (245) (io), 27 I/O (248) (io), 28 I/O (251) (io), 31 I/O (254) (io), 32 I/O (257) (io), 33 I/O (260) (io), 34 I/O (263) (io), 35 I/O (266) (io), 36 I/O (269) (io), 38 I/O (278) (io), 39 I/O (281) (io), 41 I/O (284) (io), 42 I/O (287) (io), 43 I/O (290) (io), 44 I/O (293) (io), 46 I/O (296) (io), 47 I/O (299) (io), 48 I/O (302) (io), 49 I/O (305) (io), 50 I/O (308) (io), 51 I/O (311) (io), 52 I/O (320) (io), 53 I/O (323) (io), 54 I/O (326) (io), 55 I/O (329) (io), 56 I/O (332) (io), 57 I/O, SGCK2 (335) (io), 58 NC (338), 60 MODE (341) (in), 62 NC (342), 63 I/O, PGCK2 (343) (io), 64 I/O (HDC) (346) (io), 65 I/O (349) (io), 66 I/O (352) (io), 67 I/O (355) (io), 68 I/O (LDC) (358) (io), 69 I/O (367) (io), 70 I/O (370) (io), 71 I/O (373) (io), 72 I/O (376) (io), 73 I/O (379) (io), 74 I/O (382) (io), 76 I/O (385) (io), 77 I/O (388) (io), 78 I/O (391) (io), 79 I/O (394) (io), 81 I/O (397) (io), 82 I/O (400) (io), 84 I/O (409) (io), 85 I/O (412) (io), 86 I/O (415) (io), 87 I/O (418) (io), 88 I/O (421) (io), 89 I/O (INIT) (424) (io), 92 I/O (427) (io), 93 I/O (430) (io), 94 I/O (433) (io), 95 I/O (436) (io), 96 I/O (439) (io), 97 I/O (442) (io), 99 I/O (451) (io), 100 I/O (454) (io), 102 I/O (457) (io), 103 I/O (460) (io), 104 I/O (463) (io), 105 I/O (466) (io), 107 I/O (469) (io), 108 I/O (472) (io), 109 I/O (475) (io), 110 I/O (478) (io), 111 I/O (481) (io), 112 I/O (484) (io), 113 I/O (493) (io), 114 I/O (496) (io), 115 I/O (499) (io), 116 I/O (502) (io), 117 I/O (505) (io), 118 I/O, SGCK3 (508) (io), 120 DONE (io), 122 PROGRAM (in), 123 I/O (511) (io), 124 I/O, PGCK3 (514) (io), 125 I/O (517) (io), 126 I/O (520) (io), 127 I/O (523) (io), 128 I/O (526) (io), 129 I/O (535) (io), 130 I/O (538) (io), 131 I/O (541) (io), 132 I/O (544) (io), 133 I/O (547) (io), 134 I/O (550) (io), 136 I/O (553) (io), 137 I/O (556) (io), 138 I/O (559) (io), 139 I/O (562) (io), 141 I/O (565) (io), 142 I/O (568) (io), 144 I/O (577) (io), 145 I/O (580) (io), 146 I/O (583) (io), 147 I/O (586) (io), 148 I/O (589) (io), 149 I/O (592) (io), 152 I/O (595) (io), 153 I/O (598) (io), 154 I/O (601) (io), 155 I/O (604) (io), 156 I/O (607) (io), 157 I/O (610) (io), 159 I/O (619) (io), 160 I/O (622) (io), 162 I/O (625) (io), 163 I/O (628) (io), 164 I/O (631) (io), 165 I/O (634) (io), 167 I/O (637) (io), 168 I/O (640) (io), 169 I/O (643) (io), 170 I/O (646) (io), 171 I/O (649) (io), 172 I/O (652) (io), 173 I/O (655) (io), 174 I/O (658) (io), 175 I/O (667) (io), 176 I/O (670) (io), 177 I/O (DIN) (673) (io), 178 I/O, SGCK4 (DOUT) (676) (io), 179 CCLK (io), 181 O, TDO (0) (hiz), 183 I/O (2) (io), 184 I/O, PGCK4 (5) (io), 185 I/O (8) (io), 186 I/O (11) (io), 187 I/O (14) (io), 188 I/O (17) (io), 189 I/O (26) (io), 190 I/O (29) (io), 191 I/O (32) (io), 192 I/O (35) (io), 193 I/O (38) (io), 194 I/O (41) (io), 195 NC, 197 I/O (44) (io), 198 I/O (47) (io), 199 I/O (50) (io), 200 I/O (53) (io), 202 I/O (62) (io), 203 I/O (65) (io), 205 I/O (68) (io), 206 I/O (71) (io), 207 I/O (74) (io), 208 I/O (77) (io), 209 I/O (80) (io), 210 I/O (83) (io), 213 I/O (86) (io), 214 I/O (89) (io), 215 I/O (92) (io), 216 I/O (95) (io), 217 I/O (98) (io), 218 I/O (101) (io), 220 I/O (104) (io), 221 I/O (107) (io), 223 I/O (116) (io), 224 I/O (119) (io), 225 I/O (122) (io), 226 I/O (125) (io), 228 I/O (128) (io), 229 I/O (131) (io), 230 I/O (134) (io), 231 I/O (137) (io), 232 I/O (140) (io), 233 I/O (143) (io), 234 I/O (152) (io), 235 I/O (155) (io), 236 I/O (158) (io), 237 I/O (161) (io), 238 I/O (164) (io), 239 I/O, SGCK1 (167) (io)
part B pins: 1 GND (power), 14 GND (power), 19 VCC (power), 22 GND (power), 29 GND (power), 30 VCC (power), 37 GND (power), 40 VCC (power), 45 GND (power), 59 GND (power), 61 VCC (power), 75 GND (power), 80 VCC (power), 83 GND (power), 90 VCC (power), 91 GND (power), 98 GND (power), 101 VCC (power), 106 GND (power), 119 GND (power), 121 VCC (power), 135 GND (power), 140 VCC (power), 143 GND (power), 150 VCC (power), 151 GND (power), 158 GND (power), 161 VCC (power), 166 GND (power), 180 VCC (power), 182 GND (power), 196 GND (power), 201 VCC (power), 204 GND (power), 211 GND (power), 212 VCC (power), 219 GND (power), 222 VCC (power), 227 GND (power), 240 VCC (power)